# Altium footprint library JST BM06B-GHS-TBT.PCBLIB: 1 footprints
Each footprint in its own frame and in the unit in brackets; x right, y up, seen from the top. Pads: shape width x height; smd on the part's side, far side on the other; paste and mask are expansions set on the pad; w line width, h text height; cw(c..) or ccw(c..) is an arc to the next point about the centre after c.
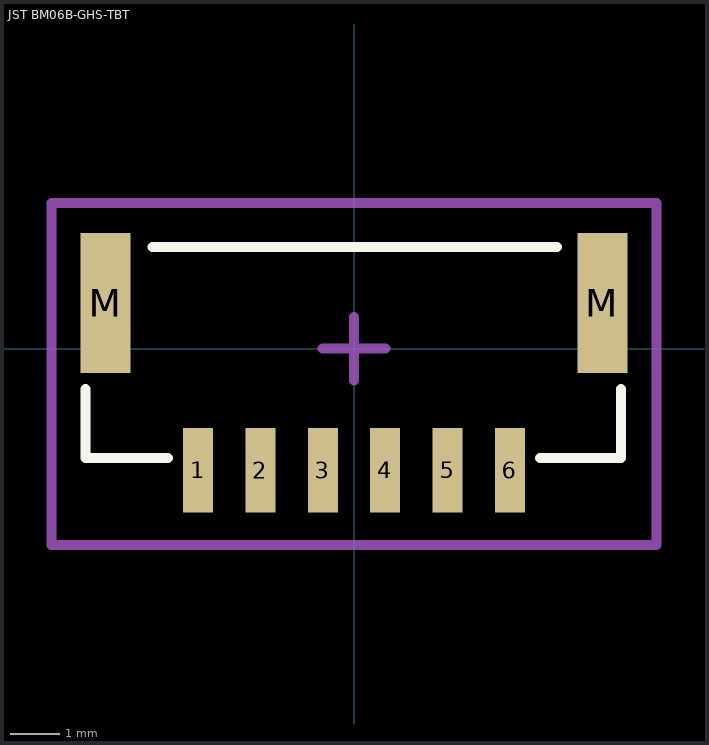
[diagram p0: the footprint, top view; thin cyan lines are the x and y axes]

## JST BM06B-GHS-TBT [mm] "JST GH Series 1.25mm pitch, top entry connector"
height 4.5
pads (8):
  rect 0.6x1.7 smd: 1(-3.125,-2.437) 2(-1.875,-2.437) 3(-0.625,-2.437) 4(0.625,-2.437) 5(1.875,-2.437) 6(3.125,-2.437)
  rect 1x2.8 smd: M(-4.975,0.913) M(4.975,0.913)
Top Overlay:
  lines w0.2: -5.375,-0.812 -5.375,-2.187 -3.725,-2.187 ; -4.034,2.032 4.064,2.032 ; 3.725,-2.187 5.35,-2.187 5.35,-0.812
Mechanical 15:
  lines w0.2: -0.635,0 0.635,0 ; 0,-0.635 0,0.635 ; -6.056,-3.937 -6.056,2.921 6.056,2.921 6.056,-3.937 -6.056,-3.937
3D body "JST BM06B-GHS-TBT.STEP": height 4.18, standoff -0.03, extent -5.375,-2.918 5.375,2.032